# Altium footprint library CR2032_SMD.PcbLib: 1 footprints
Each footprint in its own frame and in the unit in brackets; x right, y up, seen from the top. Pads: shape width x height; smd on the part's side, far side on the other; paste and mask are expansions set on the pad; w line width, h text height; cw(c..) or ccw(c..) is an arc to the next point about the centre after c.
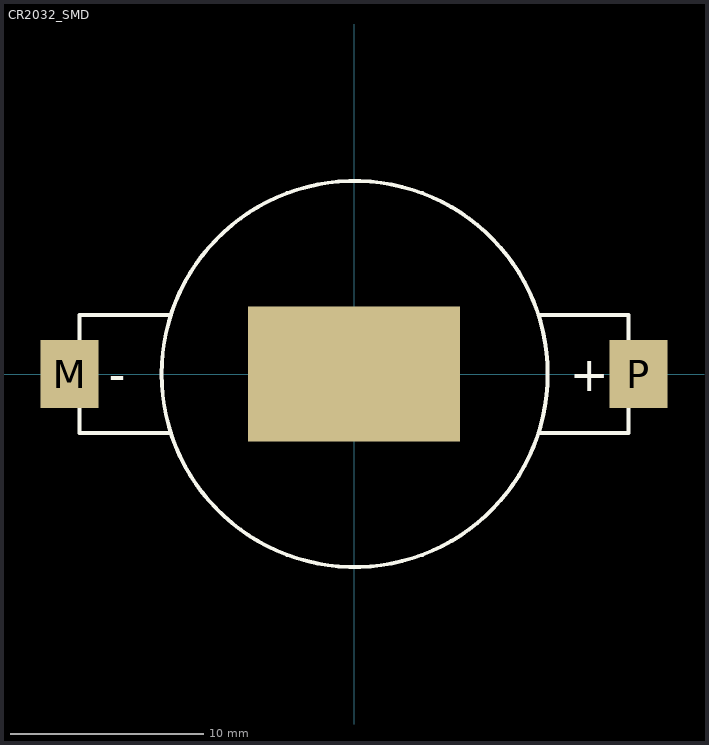
[diagram p0: the footprint, top view; thin cyan lines are the x and y axes]

## CR2032_SMD [mm]
pads (3):
  rect 3x3.5 smd: M(-14.732,0) P(14.732,0)
  rect 11x7 smd: ""(0,0)
Top Overlay:
  circle w0.203: c0.033,0 r10
  lines w0.203: -9.525,-3.048 -14.224,-3.048 -14.224,3.048 -9.525,3.048 ; 9.652,-3.048 14.224,-3.048 14.224,3.048 9.652,3.048
  text "+" at 11.176,-0.889 h1.78
  text "-" at -12.7,-0.889 h1.78